# Altium integrated library ACS70331EESATR-005U3.IntLib: 1 symbol
Pins are listed as number, name and electrical type; pins without a type are passive.

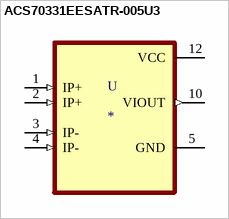
[diagram p0: symbol ACS70331EESATR-005U3]

## ACS70331EESATR-005U3
designator U
Current Sensor 5A 1 Channel Hall Effect, Open Loop Unidirectional 12-PowerWQFN; MF: Allegro MicroSystems LLC; MP: ACS70331EESATR-005U3; Value: *; Digi-Key_Purchase_URL: https://www.digikey.com/product-detail/en/allegro-microsystems/ACS70331EESATR-005U3/620-1888-1-ND/8120688?utm_source=snapeda&utm_medium=aggregator&utm_campaign=symbol; Digi-Key_Part_Number: 620-1888-1-ND; Package: WFQFN-12 Allegro MicroSystems LLC; SnapEDA_Link: https://www.snapeda.com/parts/ACS70331EESATR-005U3/Allegro%20MicroSystems%20LLC/view-part/2732756/?ref=snap
footprint ALLEGRO_ACS70331EESATR-005U3
pins: 1 IP+ (in), 2 IP+ (in), 3 IP- (in), 4 IP- (in), 5 GND (power), 10 VIOUT (out), 12 VCC (power)